# Altium schematic symbol library Schlib1.SchLib: 3 symbols
Pins are listed as number, name and electrical type; pins without a type are passive.

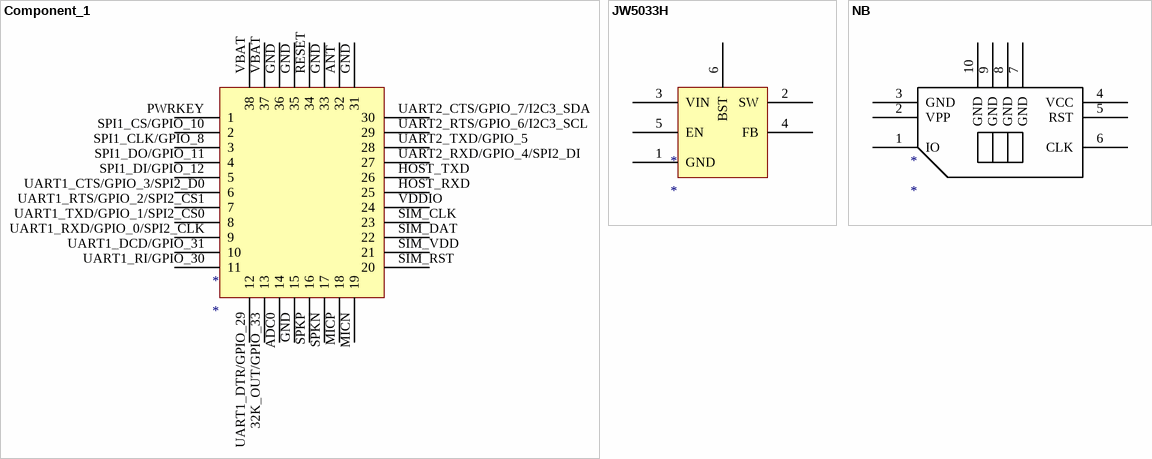
[diagram p0: symbols Component_1 to NB]

## Component_1
designator *
pins: 32K_OUT/GPIO_33 13, ADC0 14, ANT 32, GND 15, GND 31, GND 33, GND 35, GND 36, HOST_RXD 25, HOST_TXD 26, MICN 19, MICP 18, PWRKEY 1, RESET 34, SIM_CLK 23, SIM_DAT 22, SIM_RST 20, SIM_VDD 21, SPI1_CLK/GPIO_8 3, SPI1_CS/GPIO_10 2, SPI1_DI/GPIO_12 5, SPI1_DO/GPIO_11 4, SPKN 17, SPKP 16, UART1_CTS/GPIO_3/SPI2_D0 6, UART1_DCD/GPIO_31 10, UART1_DTR/GPIO_29 12, UART1_RI/GPIO_30 11, UART1_RTS/GPIO_2/SPI2_CS1 7, UART1_RXD/GPIO_0/SPI2_CLK 9, UART1_TXD/GPIO_1/SPI2_CS0 8, UART2_CTS/GPIO_7/I2C3_SDA 30, UART2_RTS/GPIO_6/I2C3_SCL 29, UART2_RXD/GPIO_4/SPI2_DI 27, UART2_TXD/GPIO_5 28, VBAT 37, VBAT 38, VDDIO 24

## JW5033H
designator *
pins: 1 GND, 2 SW, 3 VIN, 4 FB, 5 EN, 6 BST

## NB
designator *
pins: 1 IO, 2 VPP, 3 GND, 4 VCC, 5 RST, 6 CLK, 7 GND, 8 GND, 9 GND, 10 GND